# EAGLE library part LUCII_RACK_POWER_MOD1 (library Dennistries-Josh)
LUCII Rack Unit Power Module v1 Designed for use with LUCII Rack Mount Hardware
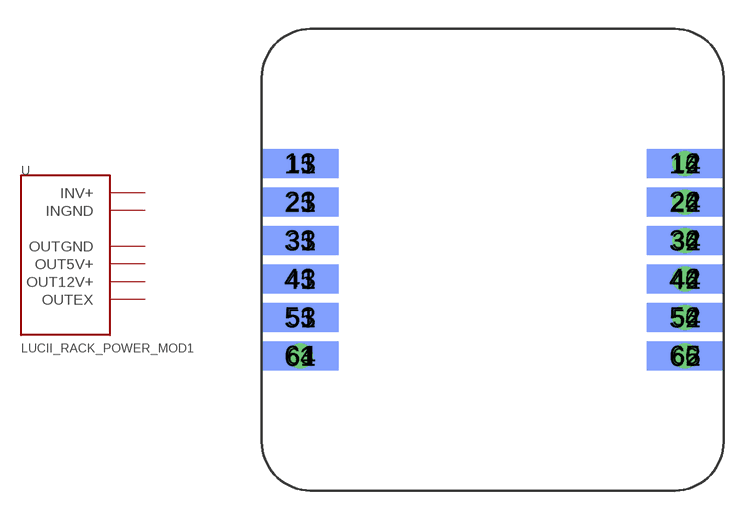
[diagram p1: symbol with the pads of LUCII_RACK_POWER_MOD1; footprint LUCII_RACK_POWER_MOD1]

Designator prefix -

## LUCII_RACK_POWER_MOD1  [LUCII_RACK_POWER_MOD1]
11  INGND
12  INGND
13  INGND
14  INGND
15  INGND
16  INGND
21  INV+
22  INV+
23  INV+
24  INV+
25  INV+
26  INV+
31  OUT5V+
32  OUT5V+
33  OUT5V+
34  OUT5V+
35  OUT5V+
36  OUT5V+
41  OUT12V+
42  OUT12V+
43  OUT12V+
44  OUT12V+
45  OUT12V+
46  OUT12V+
51  OUTEX
52  OUTEX
53  OUTEX
54  OUTEX
55  OUTEX
56  OUTEX
61  OUTGND
62  OUTGND
63  OUTGND
64  OUTGND
65  OUTGND
66  OUTGND

## Footprint LUCII_RACK_POWER_MOD1 (pad centres in mm)
smd 4 x 1.5 bottom: 11 -10,5; 12 10,5; 21 -10,3; 22 10,3; 31 -10,1; 32 10,1; 41 -10,-1; 42 10,-1; 51 -10,-3; 52 10,-3; 61 -10,-5; 62 10,-5
smd 4 x 1.5: 13 -10,5; 14 10,5; 23 -10,3; 24 10,3; 33 -10,1; 34 10,1; 43 -10,-1; 44 10,-1; 53 -10,-3; 54 10,-3; 64 -10,-5; 65 10,-5
drill 0.8: 15 -10,5; 16 10,5; 25 -10,3; 26 10,3; 35 -10,1; 36 10,1; 45 -10,-1; 46 10,-1; 55 -10,-3; 56 10,-3; 63 -10,-5; 66 10,-5